# Altium schematic symbol library KA-3021SGCT.SchLib: 1 symbol
Pins are listed as number, name and electrical type; pins without a type are passive.

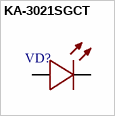
[diagram p0: symbol KA-3021SGCT]

## KA-3021SGCT
designator VD?, comment Value  (value not drawn)
footprint 2030 (SMT LED; 2 Flat Leads)
pins: 1, 2